# Altium footprint library CON HLE-113-02-x-DV-BE-A.PcbLib: 1 footprints
Each footprint in its own frame and in the unit in brackets; x right, y up, seen from the top. Pads: shape width x height; smd on the part's side, far side on the other; paste and mask are expansions set on the pad; w line width, h text height; cw(c..) or ccw(c..) is an arc to the next point about the centre after c.
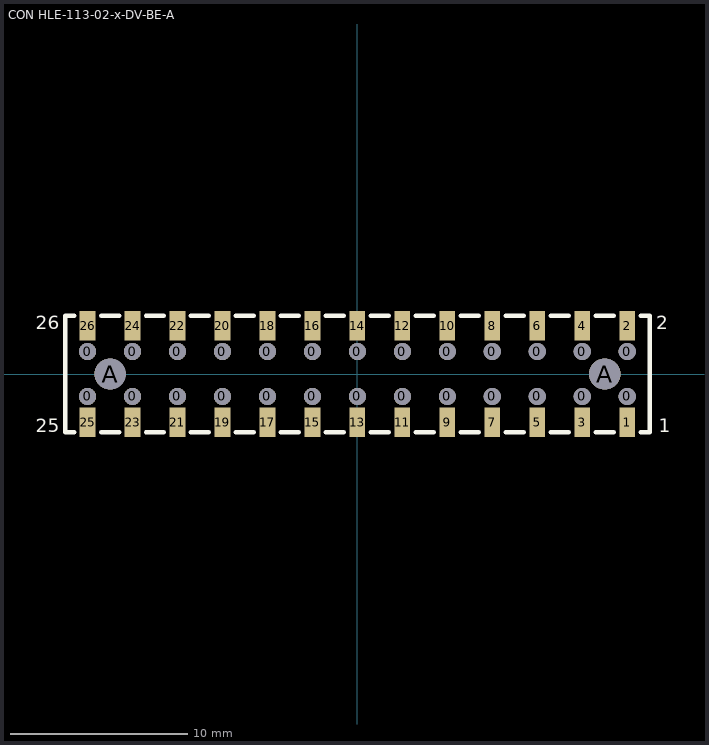
[diagram p0: the footprint, top view; thin cyan lines are the x and y axes]

## CON HLE-113-02-x-DV-BE-A [mil]
pads (54):
  round 38 hole 38 unplated: 0(-600,-50) 0(-600,50) 0(-500,-50) 0(-500,50) 0(-400,-50) 0(-400,50) 0(-300,-50) 0(-300,50) 0(-200,-50) 0(-200,50) 0(-100,-50) 0(-100,50) 0(0,-50) 0(0,50) 0(100,-50) 0(100,50) 0(200,-50) 0(200,50) 0(300,-50) 0(300,50) 0(400,-50) 0(400,50) 0(500,-50) 0(500,50) 0(600,-50) 0(600,50)
  rect 35x66 smd: 1(600,-107) 2(600,107) 3(500,-107) 4(500,107) 5(400,-107) 6(400,107) 7(300,-107) 8(300,107) 9(200,-107) 10(200,107) 11(100,-107) 12(100,107) 13(0,-107) 14(0,107) 15(-100,-107) 16(-100,107) 17(-200,-107) 18(-200,107) 19(-300,-107) 20(-300,107) 21(-400,-107) 22(-400,107) 23(-500,-107) 24(-500,107) 25(-600,-107) 26(-600,107)
  round 70 hole 70 unplated: A(-550,0) A(550,0)
Top Overlay:
  lines w10: -630,-130 -650,-130 -650,130 -630,130 ; -570,-130 -530,-130 ; -570,130 -530,130 ; -470,-130 -430,-130 ; -470,130 -430,130 ; -370,-130 -330,-130 ; -370,130 -330,130 ; -270,-130 -230,-130 ; -270,130 -230,130 ; -170,-130 -130,-130 ; -170,130 -130,130 ; -70,-130 -30,-130 ; -70,130 -30,130 ; 30,-130 70,-130 ; 30,130 70,130 ; 130,-130 170,-130 ; 130,130 170,130 ; 230,-130 270,-130 ; 230,130 270,130 ; 330,-130 370,-130 ; 330,130 370,130 ; 430,-130 470,-130 ; 430,130 470,130 ; 530,-130 570,-130 ; 530,130 570,130 ; 630,-130 650,-130 650,130 630,130
  text "1" at 670,-130 h30
  text "2" at 665,100 h30
  text "26" at -715,100 h30
  text "25" at -715,-130 h30
3D body: height 144.6, standoff -43.4, extent -650,-130 650,130